# Altium footprint library STM32L433CCU6.PcbLib: 1 footprints
Each footprint in its own frame and in the unit in brackets; x right, y up, seen from the top. Pads: shape width x height; smd on the part's side, far side on the other; paste and mask are expansions set on the pad; w line width, h text height; cw(c..) or ccw(c..) is an arc to the next point about the centre after c.
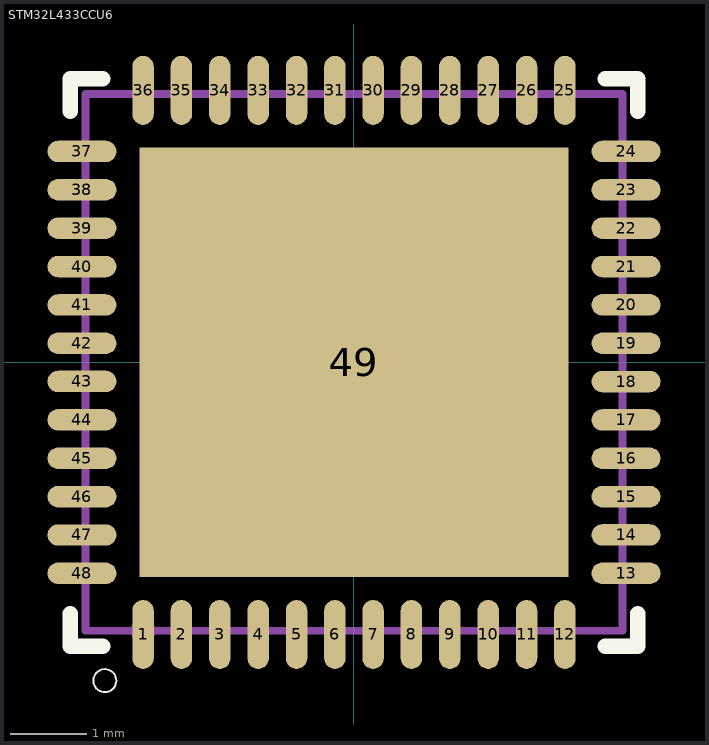
[diagram p0: the footprint, top view; thin cyan lines are the x and y axes]

## STM32L433CCU6 [mm] "ST Microelectronics. -40C~+85C 1.71V~3.6V 12bit 12bit 256KB 32 Bit 38 64KB 80MHz ARM Cortex-M4 Built-in FLASH UFQFPN-48(7x7) Microcontrollers (MCU/MPU/SOC) ROHS"
pads (49):
  oval 0.28x0.9 smd: 1(-2.751,-3.547) 2(-2.25,-3.547) 3(-1.75,-3.547) 4(-1.25,-3.547) 5(-0.749,-3.547) 6(-0.249,-3.547) 7(0.249,-3.547) 8(0.749,-3.547) 9(1.25,-3.547) 10(1.75,-3.547) 11(2.25,-3.547) 12(2.751,-3.547) 25(2.751,3.547) 26(2.25,3.547) 27(1.75,3.547) 28(1.25,3.547) 29(0.749,3.547) 30(0.249,3.547) 31(-0.249,3.547) 32(-0.749,3.547) 33(-1.25,3.547) 34(-1.75,3.547) 35(-2.25,3.547) 36(-2.751,3.547)
  oval 0.9x0.28 smd: 13(3.547,-2.75) 14(3.547,-2.25) 15(3.547,-1.75) 16(3.547,-1.25) 17(3.547,-0.75) 18(3.547,-0.25) 19(3.547,0.25) 20(3.547,0.75) 21(3.547,1.25) 22(3.547,1.75) 23(3.547,2.25) 24(3.547,2.75) 37(-3.547,2.751) 38(-3.547,2.25) 39(-3.547,1.75) 40(-3.547,1.25) 41(-3.547,0.749) 42(-3.547,0.249) 43(-3.547,-0.249) 44(-3.547,-0.749) 45(-3.547,-1.25) 46(-3.547,-1.75) 47(-3.547,-2.25) 48(-3.547,-2.751)
  rect 5.6x5.6 smd: 49(0,0)
Top Overlay:
  circle w0.025: c-3.249,-4.15 r0.15
  lines w0.2: -3.7,-3.275 -3.7,-3.7 -3.275,-3.7 ; -3.7,3.275 -3.7,3.7 -3.275,3.7 ; 3.275,-3.7 3.7,-3.7 3.7,-3.275 ; 3.275,3.7 3.7,3.7 3.7,3.275
Top Paste:
  region: -2.24,2.24 2.24,2.24 2.24,-2.24 -2.24,-2.24
Mechanical 13:
  circle w0.025: c-2.75,-3.5 r0.15
  lines w0.1: -3.5,-3.5 -3.5,3.5 3.5,3.5 3.5,-3.5 -3.5,-3.5
3D body "16912e571dfb42a9a47b4df7b841ed45.step": height 0, standoff 0, extent -3.5,-3.5 3.5,3.5